# Altium schematic symbol library SHIELD_ARDUINO_UNO.SchLib: 1 symbol
Pins are listed as number, name and electrical type; pins without a type are passive.

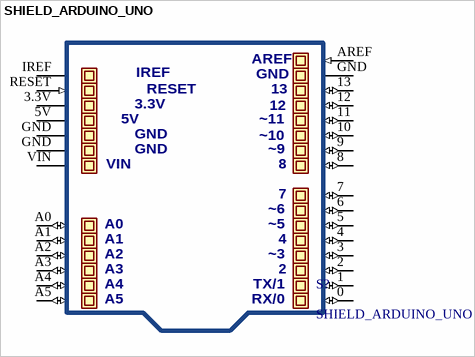
[diagram p0: symbol SHIELD_ARDUINO_UNO]

## SHIELD_ARDUINO_UNO
designator S?
footprint SHIELD_ARDUINO
pins: 0 (io), 1 (io), 2 (io), 3 (io), 3.3V 4 (power), 4 (io), 5 (io), 5V 3 (power), 6 (io), 7 (io), 8 (io), 9 (io), 10 (io), 11 (io), 12 (io), 13 (io), A0 (io), A1 (io), A2 (io), A3 (io), A4 (io), A5 A5  (io), AREF (in), GND (power), GND 1 (power), GND 2 (power), IREF 6, RESET 5 (in), VIN (power)
text: ~11; ~10; ~9; ~6; ~5; ~3; TX/1; RX/0